# EAGLE library part EPF10K100A-FBGA484 (library altera_pga84)
EPF10K100 FLEX 10K family
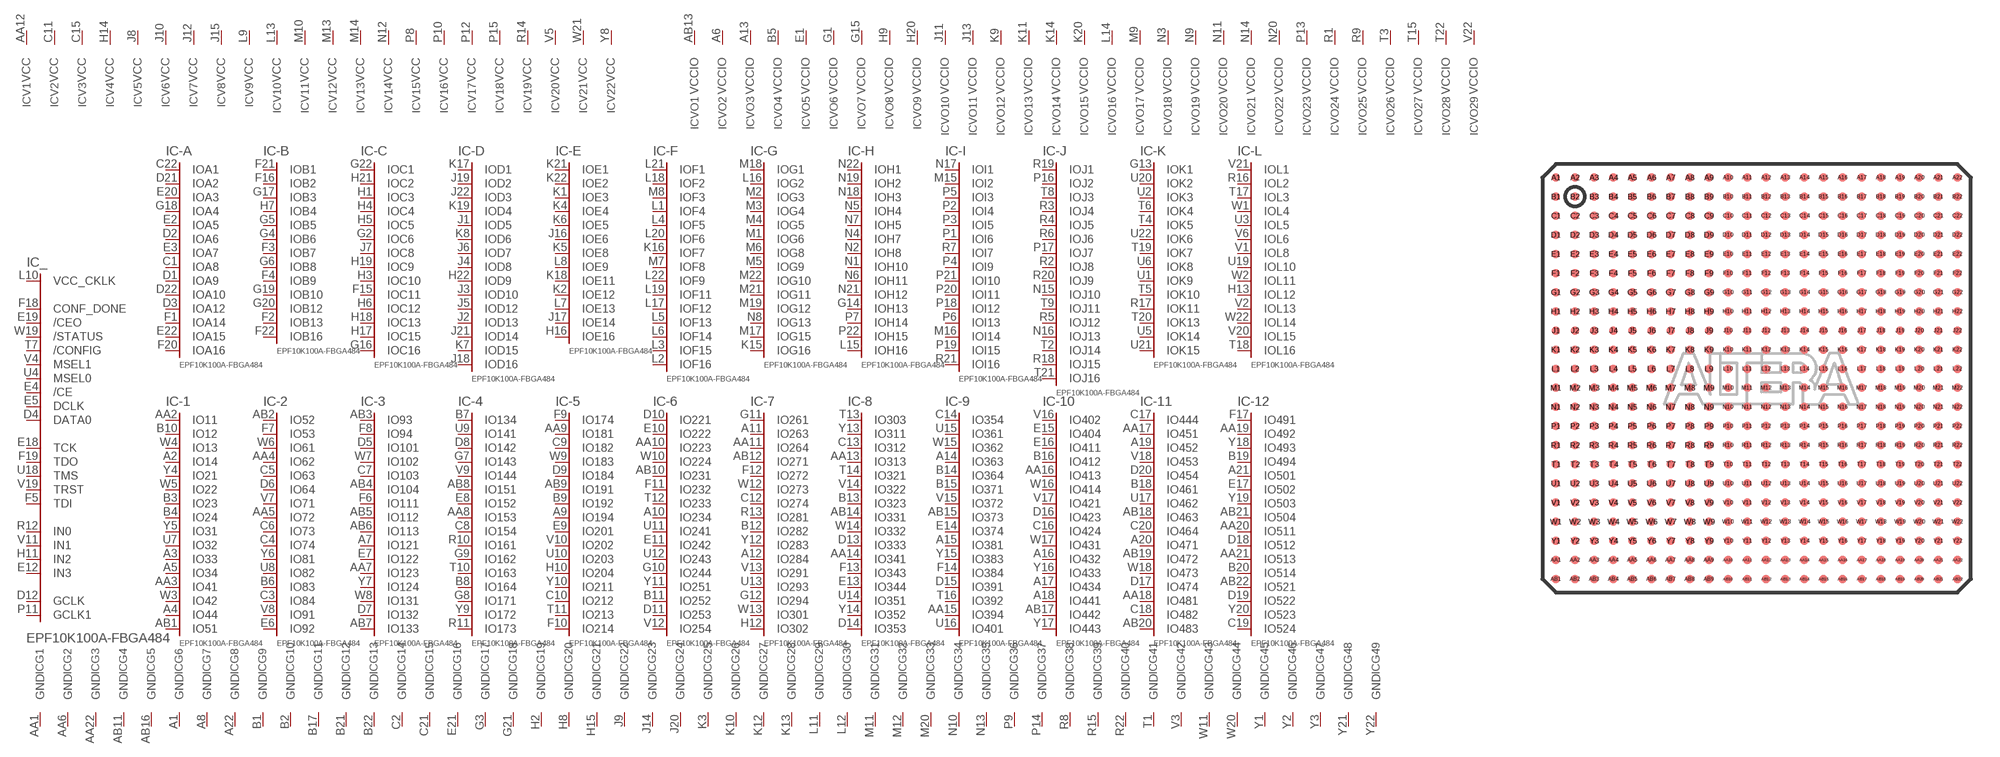
[diagram p27: symbol with the pads of FBGA484; footprint FBGA484]

Designator prefix IC; gates _=100B484C -A=A484 -B=B484 -C=C484 -D=D484 -E=E484 -F=F484 -G=G484 -H=H484 -I=I484 -J=J484 -K=K484 -L=L484 -1=IO51 -2=IO92 -3=IO133 -4=IO173 -5=IO214 -6=IO254 -7=IO302 -8=IO353 -9=IO401 -10=IO443 -11=IO483 -12=IO524 G1=GND G2=GND G3=GND G4=GND G5=GND G6=GND G7=GND G8=GND G9=GND G10=GND G11=GND G12=GND G13=GND G14=GND G15=GND G16=GND G17=GND G18=GND G19=GND G20=GND G21=GND G22=GND G23=GND G24=GND G25=GND G26=GND G27=GND G28=GND G29=GND G30=GND G31=GND G32=GND G33=GND G34=GND G35=GND G36=GND G37=GND G38=GND G39=GND G40=GND G41=GND G42=GND G43=GND G44=GND G45=GND G46=GND G47=GND G48=GND G49=GND V1=VCCINT V2=VCCINT V3=VCCINT V4=VCCINT V5=VCCINT V6=VCCINT V7=VCCINT V8=VCCINT V9=VCCINT V10=VCCINT V11=VCCINT V12=VCCINT V13=VCCINT V14=VCCINT V15=VCCINT V16=VCCINT V17=VCCINT V18=VCCINT V19=VCCINT V20=VCCINT V21=VCCINT V22=VCCINT VO1=VCCIO VO2=VCCIO VO3=VCCIO VO4=VCCIO VO5=VCCIO VO6=VCCIO VO7=VCCIO VO8=VCCIO VO9=VCCIO VO10=VCCIO VO11=VCCIO VO12=VCCIO VO13=VCCIO VO14=VCCIO VO15=VCCIO VO16=VCCIO VO17=VCCIO VO18=VCCIO VO19=VCCIO VO20=VCCIO VO21=VCCIO VO22=VCCIO VO23=VCCIO VO24=VCCIO VO25=VCCIO VO26=VCCIO VO27=VCCIO VO28=VCCIO VO29=VCCIO

## EPF10K100A-FBGA484 (MPN: EPF10K100AFC484-1; OC_FARNELL: unknown; OC_NEWARK: 51R8791)  [FBGA484]
A1  G6:GND  pwr
A2  -1:IO14
A3  -1:IO33
A4  -1:IO44
A5  -1:IO34
A6  VO2:VCCIO  pwr
A7  -3:IO121
A8  G7:GND  pwr
A9  -5:IO194
A10  -6:IO234
A11  -7:IO263
A12  -7:IO284
A13  VO3:VCCIO  pwr
A14  -9:IO363
A15  -9:IO381
A16  -10:IO432
A17  -10:IO434
A18  -10:IO441
A19  -11:IO452
A20  -11:IO471
A21  -12:IO501
A22  G8:GND  pwr
AA1  G1:GND  pwr
AA2  -1:IO11
AA3  -1:IO41
AA4  -2:IO62
AA5  -2:IO72
AA6  G2:GND  pwr
AA7  -3:IO123
AA8  -4:IO153
AA9  -5:IO181
AA10  -6:IO223
AA11  -7:IO264
AA12  V1:VCC  pwr
AA13  -8:IO313
AA14  -8:IO341
AA15  -9:IO394
AA16  -10:IO413
AA17  -11:IO451
AA18  -11:IO481
AA19  -12:IO492
AA20  -12:IO511
AA21  -12:IO513
AA22  G3:GND  pwr
AB1  -1:IO51
AB2  -2:IO52
AB3  -3:IO93
AB4  -3:IO104
AB5  -3:IO112
AB6  -3:IO113
AB7  -3:IO133
AB8  -4:IO151
AB9  -5:IO191
AB10  -6:IO231
AB11  G4:GND  pwr
AB12  -7:IO271
AB13  VO1:VCCIO  pwr
AB14  -8:IO331
AB15  -9:IO373
AB16  G5:GND  pwr
AB17  -10:IO442
AB18  -11:IO463
AB19  -11:IO472
AB20  -11:IO483
AB21  -12:IO504
AB22  -12:IO521
B1  G9:GND  pwr
B2  G10:GND  pwr
B3  -1:IO23
B4  -1:IO24
B5  VO4:VCCIO  pwr
B6  -2:IO83
B7  -4:IO134
B8  -4:IO164
B9  -5:IO192
B10  -1:IO12
B11  -6:IO252
B12  -7:IO282
B13  -8:IO323
B14  -9:IO364
B15  -9:IO371
B16  -10:IO412
B17  G11:GND  pwr
B18  -11:IO461
B19  -12:IO494
B20  -12:IO514
B21  G12:GND  pwr
B22  G13:GND  pwr
C1  -A:IOA8
C2  G14:GND  pwr
C3  -2:IO84
C4  -2:IO74
C5  -2:IO63
C6  -2:IO73
C7  -3:IO103
C8  -4:IO154
C9  -5:IO182
C10  -5:IO212
C11  V2:VCC  pwr
C12  -7:IO274
C13  -8:IO312
C14  -9:IO354
C15  V3:VCC  pwr
C16  -10:IO424
C17  -11:IO444
C18  -11:IO482
C19  -12:IO524
C20  -11:IO464
C21  G15:GND  pwr
C22  -A:IOA1
D1  -A:IOA9
D2  -A:IOA6
D3  -A:IOA12
D4  _:DATA0  in
D5  -3:IO101
D6  -2:IO64
D7  -3:IO132
D8  -4:IO142
D9  -5:IO184
D10  -6:IO221
D11  -6:IO253
D12  _:GCLK  in
D13  -8:IO333
D14  -8:IO353
D15  -9:IO391
D16  -10:IO423
D17  -11:IO474
D18  -12:IO512
D19  -12:IO522
D20  -11:IO454
D21  -A:IOA2
D22  -A:IOA10
E1  VO5:VCCIO  pwr
E2  -A:IOA5
E3  -A:IOA7
E4  _:/CE  in
E5  _:DCLK  in
E6  -2:IO92
E7  -3:IO122
E8  -4:IO152
E9  -5:IO201
E10  -6:IO222
E11  -6:IO242
E12  _:IN3  in
E13  -8:IO344
E14  -9:IO374
E15  -10:IO404
E16  -10:IO411
E17  -12:IO502
E18  _:TCK
E19  _:/CEO  in
E20  -A:IOA3
E21  G16:GND  pwr
E22  -A:IOA15
F1  -A:IOA14
F2  -B:IOB13
F3  -B:IOB7
F4  -B:IOB9
F5  _:TDI
F6  -3:IO111
F7  -2:IO53
F8  -3:IO94
F9  -5:IO174
F10  -5:IO214
F11  -6:IO232
F12  -7:IO272
F13  -8:IO343
F14  -9:IO384
F15  -C:IOC11
F16  -B:IOB2
F17  -12:IO491
F18  _:CONF_DONE  in
F19  _:TDO
F20  -A:IOA16
F21  -B:IOB1
F22  -B:IOB16
G1  VO6:VCCIO  pwr
G2  -C:IOC6
G3  G17:GND  pwr
G4  -B:IOB6
G5  -B:IOB5
G6  -B:IOB8
G7  -4:IO143
G8  -4:IO171
G9  -4:IO162
G10  -6:IO244
G11  -7:IO261
G12  -7:IO294
G13  -K:IOK1
G14  -H:IOH13
G15  VO7:VCCIO  pwr
G16  -C:IOC16
G17  -B:IOB3
G18  -A:IOA4
G19  -B:IOB10
G20  -B:IOB12
G21  G18:GND  pwr
G22  -C:IOC1
H1  -C:IOC3
H2  G19:GND  pwr
H3  -C:IOC10
H4  -C:IOC4
H5  -C:IOC5
H6  -C:IOC12
H7  -B:IOB4
H8  G20:GND  pwr
H9  VO8:VCCIO  pwr
H10  -5:IO204
H11  _:IN2  in
H12  -7:IO302
H13  -L:IOL12
H14  V4:VCC  pwr
H15  G21:GND  pwr
H16  -E:IOE16
H17  -C:IOC15
H18  -C:IOC13
H19  -C:IOC9
H20  VO9:VCCIO  pwr
H21  -C:IOC2
H22  -D:IOD9
J1  -D:IOD5
J2  -D:IOD13
J3  -D:IOD10
J4  -D:IOD8
J5  -D:IOD12
J6  -D:IOD7
J7  -C:IOC8
J8  V5:VCC  pwr
J9  G22:GND  pwr
J10  V6:VCC  pwr
J11  VO10:VCCIO  pwr
J12  V7:VCC  pwr
J13  VO11:VCCIO  pwr
J14  G23:GND  pwr
J15  V8:VCC  pwr
J16  -E:IOE6
J17  -E:IOE14
J18  -D:IOD16
J19  -D:IOD2
J20  G24:GND  pwr
J21  -D:IOD14
J22  -D:IOD3
K1  -E:IOE3
K2  -E:IOE12
K3  G25:GND  pwr
K4  -E:IOE4
K5  -E:IOE8
K6  -E:IOE5
K7  -D:IOD15
K8  -D:IOD6
K9  VO12:VCCIO  pwr
K10  G26:GND  pwr
K11  VO13:VCCIO  pwr
K12  G27:GND  pwr
K13  G28:GND  pwr
K14  VO14:VCCIO  pwr
K15  -G:IOG16
K16  -F:IOF7
K17  -D:IOD1
K18  -E:IOE11
K19  -D:IOD4
K20  VO15:VCCIO  pwr
K21  -E:IOE1
K22  -E:IOE2
L1  -F:IOF4
L2  -F:IOF16
L3  -F:IOF15
L4  -F:IOF5
L5  -F:IOF13
L6  -F:IOF14
L7  -E:IOE13
L8  -E:IOE9
L9  V9:VCC  pwr
L10  _:VCC_CKLK  pas
L11  G29:GND  pwr
L12  G30:GND  pwr
L13  V10:VCC  pwr
L14  VO16:VCCIO  pwr
L15  -H:IOH16
L16  -G:IOG2
L17  -F:IOF12
L18  -F:IOF2
L19  -F:IOF11
L20  -F:IOF6
L21  -F:IOF1
L22  -F:IOF9
M1  -G:IOG6
M2  -G:IOG3
M3  -G:IOG4
M4  -G:IOG5
M5  -G:IOG9
M6  -G:IOG8
M7  -F:IOF8
M8  -F:IOF3
M9  VO17:VCCIO  pwr
M10  V11:VCC  pwr
M11  G31:GND  pwr
M12  G32:GND  pwr
M13  V12:VCC  pwr
M14  V13:VCC  pwr
M15  -I:IOI2
M16  -I:IOI14
M17  -G:IOG15
M18  -G:IOG1
M19  -G:IOG12
M20  G33:GND  pwr
M21  -G:IOG11
M22  -G:IOG10
N1  -H:IOH10
N2  -H:IOH8
N3  VO18:VCCIO  pwr
N4  -H:IOH7
N5  -H:IOH4
N6  -H:IOH11
N7  -H:IOH5
N8  -G:IOG13
N9  VO19:VCCIO  pwr
N10  G34:GND  pwr
N11  VO20:VCCIO  pwr
N12  V14:VCC  pwr
N13  G35:GND  pwr
N14  VO21:VCCIO  pwr
N15  -J:IOJ10
N16  -J:IOJ13
N17  -I:IOI1
N18  -H:IOH3
N19  -H:IOH2
N20  VO22:VCCIO  pwr
N21  -H:IOH12
N22  -H:IOH1
P1  -I:IOI6
P2  -I:IOI4
P3  -I:IOI5
P4  -I:IOI9
P5  -I:IOI3
P6  -I:IOI13
P7  -H:IOH14
P8  V15:VCC  pwr
P9  G36:GND  pwr
P10  V16:VCC  pwr
P11  _:GCLK1  in
P12  V17:VCC  pwr
P13  VO23:VCCIO  pwr
P14  G37:GND  pwr
P15  V18:VCC  pwr
P16  -J:IOJ2
P17  -J:IOJ7
P18  -I:IOI12
P19  -I:IOI15
P20  -I:IOI11
P21  -I:IOI10
P22  -H:IOH15
R1  VO24:VCCIO  pwr
R2  -J:IOJ8
R3  -J:IOJ4
R4  -J:IOJ5
R5  -J:IOJ12
R6  -J:IOJ6
R7  -I:IOI7
R8  G38:GND  pwr
R9  VO25:VCCIO  pwr
R10  -4:IO161
R11  -4:IO173
R12  _:IN0  in
R13  -7:IO281
R14  V19:VCC  pwr
R15  G39:GND  pwr
R16  -L:IOL2
R17  -K:IOK11
R18  -J:IOJ15
R19  -J:IOJ1
R20  -J:IOJ9
R21  -I:IOI16
R22  G40:GND  pwr
T1  G41:GND  pwr
T2  -J:IOJ14
T3  VO26:VCCIO  pwr
T4  -K:IOK5
T5  -K:IOK10
T6  -K:IOK4
T7  _:/CONFIG  in
T8  -J:IOJ3
T9  -J:IOJ11
T10  -4:IO163
T11  -5:IO213
T12  -6:IO233
T13  -8:IO303
T14  -8:IO321
T15  VO27:VCCIO  pwr
T16  -9:IO392
T17  -L:IOL3
T18  -L:IOL16
T19  -K:IOK7
T20  -K:IOK13
T21  -J:IOJ16
T22  VO28:VCCIO  pwr
U1  -K:IOK9
U2  -K:IOK3
U3  -L:IOL5
U4  _:MSEL0  in
U5  -K:IOK14
U6  -K:IOK8
U7  -1:IO32
U8  -2:IO82
U9  -4:IO141
U10  -5:IO203
U11  -6:IO241
U12  -6:IO243
U13  -7:IO293
U14  -8:IO351
U15  -9:IO361
U16  -9:IO401
U17  -11:IO462
U18  _:TMS
U19  -L:IOL10
U20  -K:IOK2
U21  -K:IOK15
U22  -K:IOK6
V1  -L:IOL8
V2  -L:IOL13
V3  G42:GND  pwr
V4  _:MSEL1  in
V5  V20:VCC  pwr
V6  -L:IOL6
V7  -2:IO71
V8  -2:IO91
V9  -4:IO144
V10  -5:IO202
V11  _:IN1  in
V12  -6:IO254
V13  -7:IO291
V14  -8:IO322
V15  -9:IO372
V16  -10:IO402
V17  -10:IO421
V18  -11:IO453
V19  _:TRST
V20  -L:IOL15
V21  -L:IOL1
V22  VO29:VCCIO  pwr
W1  -L:IOL4
W2  -L:IOL11
W3  -1:IO42
W4  -1:IO13
W5  -1:IO22
W6  -2:IO61
W7  -3:IO102
W8  -3:IO131
W9  -5:IO183
W10  -6:IO224
W11  G43:GND  pwr
W12  -7:IO273
W13  -7:IO301
W14  -8:IO332
W15  -9:IO362
W16  -10:IO414
W17  -10:IO431
W18  -11:IO473
W19  _:/STATUS  in
W20  G44:GND  pwr
W21  V21:VCC  pwr
W22  -L:IOL14
Y1  G45:GND  pwr
Y2  G46:GND  pwr
Y3  G47:GND  pwr
Y4  -1:IO21
Y5  -1:IO31
Y6  -2:IO81
Y7  -3:IO124
Y8  V22:VCC  pwr
Y9  -4:IO172
Y10  -5:IO211
Y11  -6:IO251
Y12  -7:IO283
Y13  -8:IO311
Y14  -8:IO352
Y15  -9:IO383
Y16  -10:IO433
Y17  -10:IO443
Y18  -12:IO493
Y19  -12:IO503
Y20  -12:IO523
Y21  G48:GND  pwr
Y22  G49:GND  pwr

## Footprint FBGA484 (pad centres in mm)
Fine Ball Grid Array
smd 0.45 x 0.45: A1 -10.5,10.5; A2 -9.5,10.5; A3 -8.5,10.5; A4 -7.5,10.5; A5 -6.5,10.5; A6 -5.5,10.5; A7 -4.5,10.5; A8 -3.5,10.5; A9 -2.5,10.5; A10 -1.5,10.5; A11 -0.5,10.5; A12 0.5,10.5; A13 1.5,10.5; A14 2.5,10.5; A15 3.5,10.5; A16 4.5,10.5; A17 5.5,10.5; A18 6.5,10.5; A19 7.5,10.5; A20 8.5,10.5; A21 9.5,10.5; A22 10.5,10.5; AA1 -10.5,-9.5; AA2 -9.5,-9.5; AA3 -8.5,-9.5; AA4 -7.5,-9.5; AA5 -6.5,-9.5; AA6 -5.5,-9.5; AA7 -4.5,-9.5; AA8 -3.5,-9.5; AA9 -2.5,-9.5; AA10 -1.5,-9.5; AA11 -0.5,-9.5; AA12 0.5,-9.5; AA13 1.5,-9.5; AA14 2.5,-9.5; AA15 3.5,-9.5; AA16 4.5,-9.5; AA17 5.5,-9.5; AA18 6.5,-9.5; AA19 7.5,-9.5; AA20 8.5,-9.5; AA21 9.5,-9.5; AA22 10.5,-9.5; AB1 -10.5,-10.5; AB2 -9.5,-10.5; AB3 -8.5,-10.5; AB4 -7.5,-10.5; AB5 -6.5,-10.5; AB6 -5.5,-10.5; AB7 -4.5,-10.5; AB8 -3.5,-10.5; AB9 -2.5,-10.5; AB10 -1.5,-10.5; AB11 -0.5,-10.5; AB12 0.5,-10.5; AB13 1.5,-10.5; AB14 2.5,-10.5; AB15 3.5,-10.5; AB16 4.5,-10.5; AB17 5.5,-10.5; AB18 6.5,-10.5; AB19 7.5,-10.5; AB20 8.5,-10.5; AB21 9.5,-10.5; AB22 10.5,-10.5; B1 -10.5,9.5; B2 -9.5,9.5; B3 -8.5,9.5; B4 -7.5,9.5; B5 -6.5,9.5; B6 -5.5,9.5; B7 -4.5,9.5; B8 -3.5,9.5; B9 -2.5,9.5; B10 -1.5,9.5; B11 -0.5,9.5; B12 0.5,9.5; B13 1.5,9.5; B14 2.5,9.5; B15 3.5,9.5; B16 4.5,9.5; B17 5.5,9.5; B18 6.5,9.5; B19 7.5,9.5; B20 8.5,9.5; B21 9.5,9.5; B22 10.5,9.5; C1 -10.5,8.5; C2 -9.5,8.5; C3 -8.5,8.5; C4 -7.5,8.5; C5 -6.5,8.5; C6 -5.5,8.5; C7 -4.5,8.5; C8 -3.5,8.5; C9 -2.5,8.5; C10 -1.5,8.5; C11 -0.5,8.5; C12 0.5,8.5; C13 1.5,8.5; C14 2.5,8.5; C15 3.5,8.5; C16 4.5,8.5; C17 5.5,8.5; C18 6.5,8.5; C19 7.5,8.5; C20 8.5,8.5; C21 9.5,8.5; C22 10.5,8.5; D1 -10.5,7.5; D2 -9.5,7.5; D3 -8.5,7.5; D4 -7.5,7.5; D5 -6.5,7.5; D6 -5.5,7.5; D7 -4.5,7.5; D8 -3.5,7.5; D9 -2.5,7.5; D10 -1.5,7.5; D11 -0.5,7.5; D12 0.5,7.5; D13 1.5,7.5; D14 2.5,7.5; D15 3.5,7.5; D16 4.5,7.5; D17 5.5,7.5; D18 6.5,7.5; D19 7.5,7.5; D20 8.5,7.5; D21 9.5,7.5; D22 10.5,7.5; E1 -10.5,6.5; E2 -9.5,6.5; E3 -8.5,6.5; E4 -7.5,6.5; E5 -6.5,6.5; E6 -5.5,6.5; E7 -4.5,6.5; E8 -3.5,6.5; E9 -2.5,6.5; E10 -1.5,6.5; E11 -0.5,6.5; E12 0.5,6.5; E13 1.5,6.5; E14 2.5,6.5; E15 3.5,6.5; E16 4.5,6.5; E17 5.5,6.5; E18 6.5,6.5; E19 7.5,6.5; E20 8.5,6.5; E21 9.5,6.5; E22 10.5,6.5; F1 -10.5,5.5; F2 -9.5,5.5; F3 -8.5,5.5; F4 -7.5,5.5; F5 -6.5,5.5; F6 -5.5,5.5; F7 -4.5,5.5; F8 -3.5,5.5; F9 -2.5,5.5; F10 -1.5,5.5; F11 -0.5,5.5; F12 0.5,5.5; F13 1.5,5.5; F14 2.5,5.5; F15 3.5,5.5; F16 4.5,5.5; F17 5.5,5.5; F18 6.5,5.5; F19 7.5,5.5; F20 8.5,5.5; F21 9.5,5.5; F22 10.5,5.5; G1 -10.5,4.5; G2 -9.5,4.5; G3 -8.5,4.5; G4 -7.5,4.5; G5 -6.5,4.5; G6 -5.5,4.5; G7 -4.5,4.5; G8 -3.5,4.5; G9 -2.5,4.5; G10 -1.5,4.5; G11 -0.5,4.5; G12 0.5,4.5; G13 1.5,4.5; G14 2.5,4.5; G15 3.5,4.5; G16 4.5,4.5; G17 5.5,4.5; G18 6.5,4.5; G19 7.5,4.5; G20 8.5,4.5; G21 9.5,4.5; G22 10.5,4.5; H1 -10.5,3.5; H2 -9.5,3.5; H3 -8.5,3.5; H4 -7.5,3.5; H5 -6.5,3.5; H6 -5.5,3.5; H7 -4.5,3.5; H8 -3.5,3.5; H9 -2.5,3.5; H10 -1.5,3.5; H11 -0.5,3.5; H12 0.5,3.5; H13 1.5,3.5; H14 2.5,3.5; H15 3.5,3.5; H16 4.5,3.5; H17 5.5,3.5; H18 6.5,3.5; H19 7.5,3.5; H20 8.5,3.5; H21 9.5,3.5; H22 10.5,3.5; J1 -10.5,2.5; J2 -9.5,2.5; J3 -8.5,2.5; J4 -7.5,2.5; J5 -6.5,2.5; J6 -5.5,2.5; J7 -4.5,2.5; J8 -3.5,2.5; J9 -2.5,2.5; J10 -1.5,2.5; J11 -0.5,2.5; J12 0.5,2.5; J13 1.5,2.5; J14 2.5,2.5; J15 3.5,2.5; J16 4.5,2.5; J17 5.5,2.5; J18 6.5,2.5; J19 7.5,2.5; J20 8.5,2.5; J21 9.5,2.5; J22 10.5,2.5; K1 -10.5,1.5; K2 -9.5,1.5; K3 -8.5,1.5; K4 -7.5,1.5; K5 -6.5,1.5; K6 -5.5,1.5; K7 -4.5,1.5; K8 -3.5,1.5; K9 -2.5,1.5; K10 -1.5,1.5; K11 -0.5,1.5; K12 0.5,1.5; K13 1.5,1.5; K14 2.5,1.5; K15 3.5,1.5; K16 4.5,1.5; K17 5.5,1.5; K18 6.5,1.5; K19 7.5,1.5; K20 8.5,1.5; K21 9.5,1.5; K22 10.5,1.5; L1 -10.5,0.5; L2 -9.5,0.5; L3 -8.5,0.5; L4 -7.5,0.5; L5 -6.5,0.5; L6 -5.5,0.5; L7 -4.5,0.5; L8 -3.5,0.5; L9 -2.5,0.5; L10 -1.5,0.5; L11 -0.5,0.5; L12 0.5,0.5; L13 1.5,0.5; L14 2.5,0.5; L15 3.5,0.5; L16 4.5,0.5; L17 5.5,0.5; L18 6.5,0.5; L19 7.5,0.5; L20 8.5,0.5; L21 9.5,0.5; L22 10.5,0.5; M1 -10.5,-0.5; M2 -9.5,-0.5; M3 -8.5,-0.5; M4 -7.5,-0.5; M5 -6.5,-0.5; M6 -5.5,-0.5; M7 -4.5,-0.5; M8 -3.5,-0.5; M9 -2.5,-0.5; M10 -1.5,-0.5; M11 -0.5,-0.5; M12 0.5,-0.5; M13 1.5,-0.5; M14 2.5,-0.5; M15 3.5,-0.5; M16 4.5,-0.5; M17 5.5,-0.5; M18 6.5,-0.5; M19 7.5,-0.5; M20 8.5,-0.5; M21 9.5,-0.5; M22 10.5,-0.5; N1 -10.5,-1.5; N2 -9.5,-1.5; N3 -8.5,-1.5; N4 -7.5,-1.5; N5 -6.5,-1.5; N6 -5.5,-1.5; N7 -4.5,-1.5; N8 -3.5,-1.5; N9 -2.5,-1.5; N10 -1.5,-1.5; N11 -0.5,-1.5; N12 0.5,-1.5; N13 1.5,-1.5; N14 2.5,-1.5; N15 3.5,-1.5; N16 4.5,-1.5; N17 5.5,-1.5; N18 6.5,-1.5; N19 7.5,-1.5; N20 8.5,-1.5; N21 9.5,-1.5; N22 10.5,-1.5; P1 -10.5,-2.5; P2 -9.5,-2.5; P3 -8.5,-2.5; P4 -7.5,-2.5; P5 -6.5,-2.5; P6 -5.5,-2.5; P7 -4.5,-2.5; P8 -3.5,-2.5; P9 -2.5,-2.5; P10 -1.5,-2.5; P11 -0.5,-2.5; P12 0.5,-2.5; P13 1.5,-2.5; P14 2.5,-2.5; P15 3.5,-2.5; P16 4.5,-2.5; P17 5.5,-2.5; P18 6.5,-2.5; P19 7.5,-2.5; P20 8.5,-2.5; P21 9.5,-2.5; P22 10.5,-2.5; R1 -10.5,-3.5; R2 -9.5,-3.5; R3 -8.5,-3.5; R4 -7.5,-3.5; R5 -6.5,-3.5; R6 -5.5,-3.5; R7 -4.5,-3.5; R8 -3.5,-3.5; R9 -2.5,-3.5; R10 -1.5,-3.5; R11 -0.5,-3.5; R12 0.5,-3.5; R13 1.5,-3.5; R14 2.5,-3.5; R15 3.5,-3.5; R16 4.5,-3.5; R17 5.5,-3.5; R18 6.5,-3.5; R19 7.5,-3.5; R20 8.5,-3.5; R21 9.5,-3.5; R22 10.5,-3.5; T1 -10.5,-4.5; T2 -9.5,-4.5; T3 -8.5,-4.5; T4 -7.5,-4.5; T5 -6.5,-4.5; T6 -5.5,-4.5; T7 -4.5,-4.5; T8 -3.5,-4.5; T9 -2.5,-4.5; T10 -1.5,-4.5; T11 -0.5,-4.5; T12 0.5,-4.5; T13 1.5,-4.5; T14 2.5,-4.5; T15 3.5,-4.5; T16 4.5,-4.5; T17 5.5,-4.5; T18 6.5,-4.5; T19 7.5,-4.5; T20 8.5,-4.5; T21 9.5,-4.5; T22 10.5,-4.5; U1 -10.5,-5.5; U2 -9.5,-5.5; U3 -8.5,-5.5; U4 -7.5,-5.5; U5 -6.5,-5.5; U6 -5.5,-5.5; U7 -4.5,-5.5; U8 -3.5,-5.5; U9 -2.5,-5.5; U10 -1.5,-5.5; U11 -0.5,-5.5; U12 0.5,-5.5; U13 1.5,-5.5; U14 2.5,-5.5; U15 3.5,-5.5; U16 4.5,-5.5; U17 5.5,-5.5; U18 6.5,-5.5; U19 7.5,-5.5; U20 8.5,-5.5; U21 9.5,-5.5; U22 10.5,-5.5; V1 -10.5,-6.5; V2 -9.5,-6.5; V3 -8.5,-6.5; V4 -7.5,-6.5; V5 -6.5,-6.5; V6 -5.5,-6.5; V7 -4.5,-6.5; V8 -3.5,-6.5; V9 -2.5,-6.5; V10 -1.5,-6.5; V11 -0.5,-6.5; V12 0.5,-6.5; V13 1.5,-6.5; V14 2.5,-6.5; V15 3.5,-6.5; V16 4.5,-6.5; V17 5.5,-6.5; V18 6.5,-6.5; V19 7.5,-6.5; V20 8.5,-6.5; V21 9.5,-6.5; V22 10.5,-6.5; W1 -10.5,-7.5; W2 -9.5,-7.5; W3 -8.5,-7.5; W4 -7.5,-7.5; W5 -6.5,-7.5; W6 -5.5,-7.5; W7 -4.5,-7.5; W8 -3.5,-7.5; W9 -2.5,-7.5; W10 -1.5,-7.5; W11 -0.5,-7.5; W12 0.5,-7.5; W13 1.5,-7.5; W14 2.5,-7.5; W15 3.5,-7.5; W16 4.5,-7.5; W17 5.5,-7.5; W18 6.5,-7.5; W19 7.5,-7.5; W20 8.5,-7.5; W21 9.5,-7.5; W22 10.5,-7.5; Y1 -10.5,-8.5; Y2 -9.5,-8.5; Y3 -8.5,-8.5; Y4 -7.5,-8.5; Y5 -6.5,-8.5; Y6 -5.5,-8.5; Y7 -4.5,-8.5; Y8 -3.5,-8.5; Y9 -2.5,-8.5; Y10 -1.5,-8.5; Y11 -0.5,-8.5; Y12 0.5,-8.5; Y13 1.5,-8.5; Y14 2.5,-8.5; Y15 3.5,-8.5; Y16 4.5,-8.5; Y17 5.5,-8.5; Y18 6.5,-8.5; Y19 7.5,-8.5; Y20 8.5,-8.5; Y21 9.5,-8.5; Y22 10.5,-8.5